# Altium schematic symbol library STM32.SchLib: 23 symbols
Pins are listed as number, name and electrical type; pins without a type are passive.

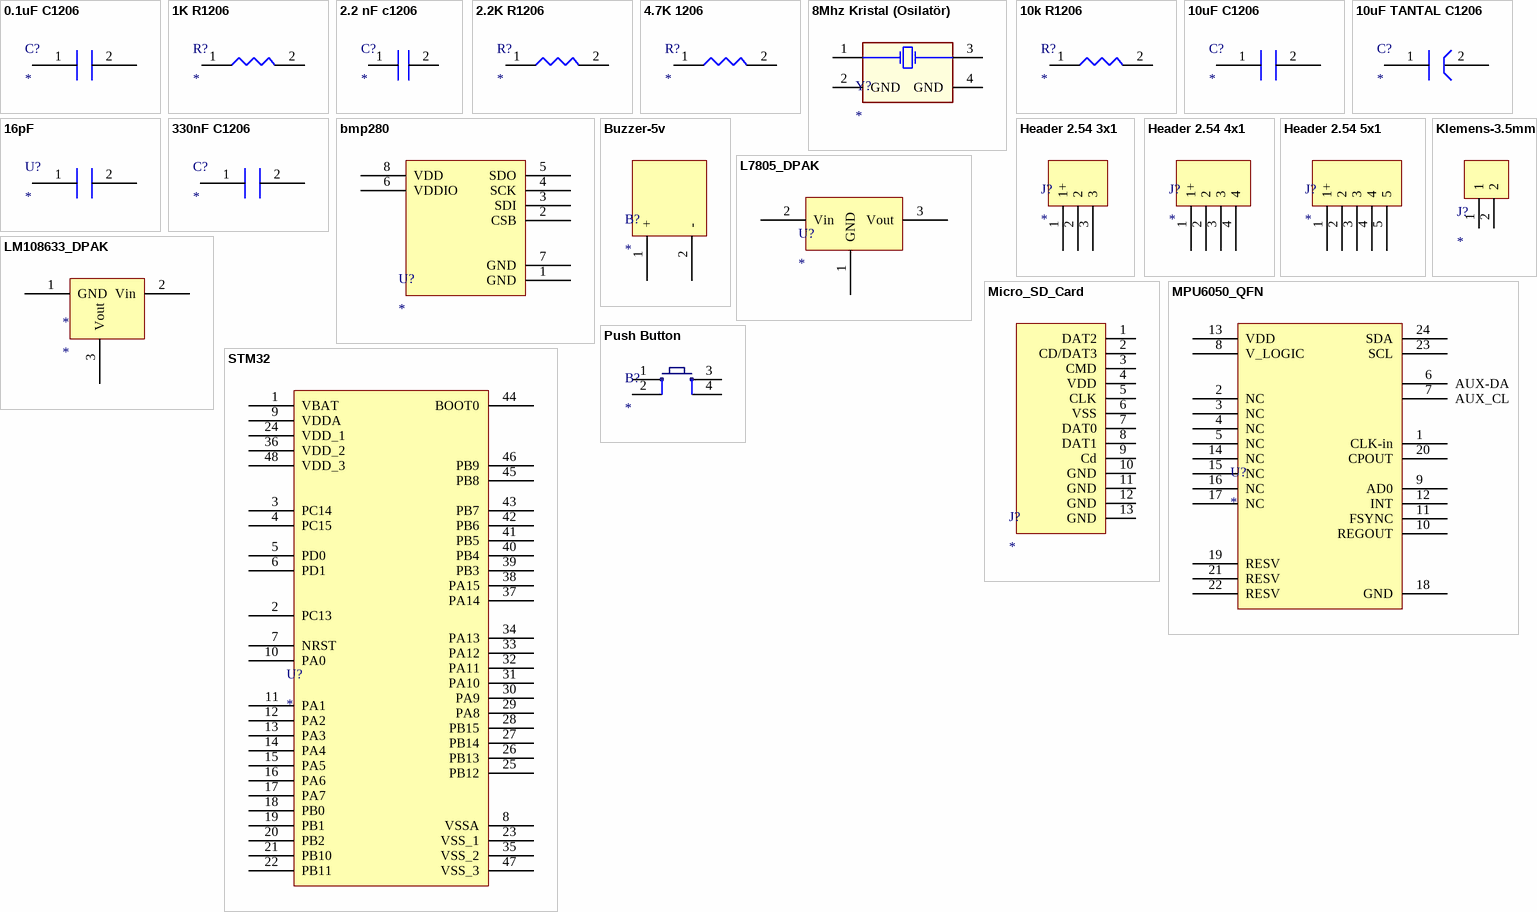
[diagram p0: symbols 0.1uF C1206 to STM32]

## 0.1uF C1206
designator C?
footprint C1206
pins: 1, 2

## 1K R1206
designator R?
1K R1206
footprint R1206
pins: 1, 2

## 2.2 nF c1206
designator C?
2.2 nF c1206
footprint C1206
pins: 1, 2

## 2.2K R1206
designator R?
footprint R1206
pins: 1, 2

## 4.7K 1206
designator R?
4.7K 1206
footprint R1206
pins: 1, 2

## 8Mhz Kristal (Osilatör)
designator Y?
footprint 8Mhz Osilator
pins: 1 (power) "Regulator Input Supply. Bypass IN to GND with a 1 uF or greater capacitor.", 2 GND (power) "Ground.", 3 "Enable Input. Drive EN high to turn on the regulator; drive it low to turn off the regulator. For automatic startup, connect EN to IN.", 4 GND "Connect a 1 nF or greater capacitor (10 nF is recommended) between BYP and GND to reduce the internal reference noise for low noise applications."

## 10k R1206
designator R?
footprint R1206
pins: 1, 2

## 10uF C1206
designator C?
footprint C1206
pins: 1, 2

## 10uF TANTAL C1206
designator C?
footprint C1206-TANTAL
pins: 1, 2

## 16pF
designator U?
footprint C1206
pins: 1, 2

## 330nF C1206
designator C?
footprint C1206
pins: 1, 2

## bmp280
designator U?
BMP280
footprint BMP280
pins: 1 GND, 2 CSB, 3 SDI, 4 SCK, 5 SDO, 6 VDDIO, 7 GND, 8 VDD

## Buzzer-5v
designator B?
footprint BUZZER-5V
pins: 1 +, 2 -

## Header 2.54 3x1
designator J?
footprint Header 2.54 3x1
pins: 1 1+, 2, 3

## Header 2.54 4x1
designator J?
footprint Header 2.54- 4x1
pins: 1 1+, 2, 3, 4

## Header 2.54 5x1
designator J?
footprint Header 2.54 5x1
pins: 1 1+, 2, 3, 4, 5

## Klemens-3.5mm
designator J?
Klemens 1*2 3.5mm
footprint Klemens-3.5mm-2'li
pins: 1, 2

## L7805_DPAK
designator U?
3.3V
footprint DPAK_L7805 (D-PAK, 3-Pads, Body 6,40x6,56mm (max), IPC Medium Density)
pins: 1 GND, 2 Vin, 3 Vout

## LM108633_DPAK
designator *
footprint DPAK_L7805 (D-PAK, 3-Pads, Body 6,40x6,56mm (max), IPC Medium Density)
pins: 1 GND, 2 Vin, 3 Vout

## Micro_SD_Card
designator J?
Micro_SD_Card_Holder
footprint Micro_SD_Card
pins: 1 DAT2, 2 CD/DAT3, 3 CMD, 4 VDD, 5 CLK, 6 VSS, 7 DAT0, 8 DAT1, 9 Cd, 10 GND, 11 GND, 12 GND, 13 GND

## MPU6050_QFN
designator U?
MPU6050
footprint MPU6050_QFN
pins: 1 CLK-in, 2 NC, 3 NC, 4 NC, 5 NC, 6 AUX-DA, 7 AUX_CL, 8 V_LOGIC, 9 AD0, 10 REGOUT, 11 FSYNC, 12 INT, 13 VDD, 14 NC, 15 NC, 16 NC, 17 NC, 18 GND, 19 RESV, 20 CPOUT, 21 RESV, 22 RESV, 23 SCL, 24 SDA

## Push Button
designator B?
Smd Push Button; Satın Alma Linki: https://urun.n11.com/diger/mini-pushbutton-switch-smd-P227461537?gclid=Cj0KCQjwkoDmBRCcARIsAG3xzl8Y_-jeD7HocNM6lvuZ_rVp83568XPGtNzlPwXWLph8oCRqo0yh87UaApZYEALw_wcB&gclsrc=aw.ds
footprint PUSB BUTTON-SMD
pins: 1, 2, 3, 4

## STM32
designator U?
footprint LQFP48-STM (TSQFP, 48-Leads, Body 7,00x7,00mm, Pitch 0,50mm, IPC Medium Density)
pins: 1 VBAT, 2 PC13, 3 PC14, 4 PC15, 5 PD0, 6 PD1, 7 NRST, 8 VSSA, 9 VDDA, 10 PA0, 11 PA1, 12 PA2, 13 PA3, 14 PA4, 15 PA5, 16 PA6, 17 PA7, 18 PB0, 19 PB1, 20 PB2, 21 PB10, 22 PB11, 23 VSS_1, 24 VDD_1, 25 PB12, 26 PB13, 27 PB14, 28 PB15, 29 PA8, 30 PA9, 31 PA10, 32 PA11, 33 PA12, 34 PA13, 35 VSS_2, 36 VDD_2, 37 PA14, 38 PA15, 39 PB3, 40 PB4, 41 PB5, 42 PB6, 43 PB7, 44 BOOT0, 45 PB8, 46 PB9, 47 VSS_3, 48 VDD_3